# EAGLE library part ADP2140 (library analog-devices)
LDO REGULATOR
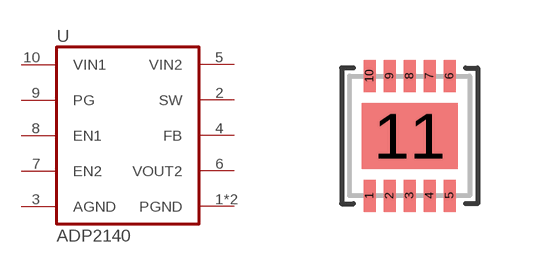
[diagram p61: symbol with the pads of LFCSP10_WD; footprint LFCSP10_WD]

Designator prefix U

## ADP2140 (P1I: o)  [LFCSP10_WD]
1  PGND  pwr
2  SW  in
3  AGND  pwr
4  FB  in
5  VIN2  in
6  VOUT2  pas
7  EN2  in
8  EN1  in
9  PG  out
10  VIN1  in
11  PGND  pwr

## Footprint LFCSP10_WD (pad centres in mm)
Lead Frame Chip Scale Package 10-Lead Lead Frame Chip Scale Package [LFCSP_WD]
smd 0.3 x 0.8: 1 -1,-1.5; 2 -0.5,-1.5; 3 0,-1.5; 4 0.5,-1.5; 5 1,-1.5; 6 1,1.5; 7 0.5,1.5; 8 0,1.5; 9 -0.5,1.5; 10 -1,1.5
smd 2.4 x 1.65: 11 0,0